# Altium schematic symbol library FeBd.Schlib: 1 symbol
Pins are listed as number, name and electrical type; pins without a type are passive.

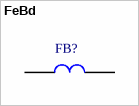
[diagram p0: symbol FeBd]

## FeBd
designator FB?  (value not drawn)
Ferrite Bead
signal-integrity model FeBd
pins: 1, 2
2 alternate drawings of the same symbol